# Altium schematic symbol library FIELDTR.SchLib: 1 symbol
Pins are listed as number, name and electrical type; pins without a type are passive.

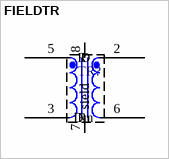
[diagram p0: symbol FIELDTR]

## FIELDTR
designator TR?  (value not drawn)
footprint FIELDTR
pins: 2 D, 3 Rn, 5 R, 6 Dn, 7 sield, 8 shield